# EAGLE library part MT25QL512ABB8ESF-0AAT (library MT25QL512ABB8ESF-0AAT)
NOR Flash Serial-SPI 3V/3.3V 512M-bit 64M/32M/16M x 1/2-bit/4-bit 6ns Automotive 16-Pin SOP-II Source: Datasheet <https://media-www.micron.com/-/media/client/global/documents/products/data-sheet/nor-flash/serial-nor/mt25q/die-rev-b/mt25q_qlkt_l_512_abb_0.pdf?rev=0ef0faa5f7b645d7bc11c30bfd27505b>
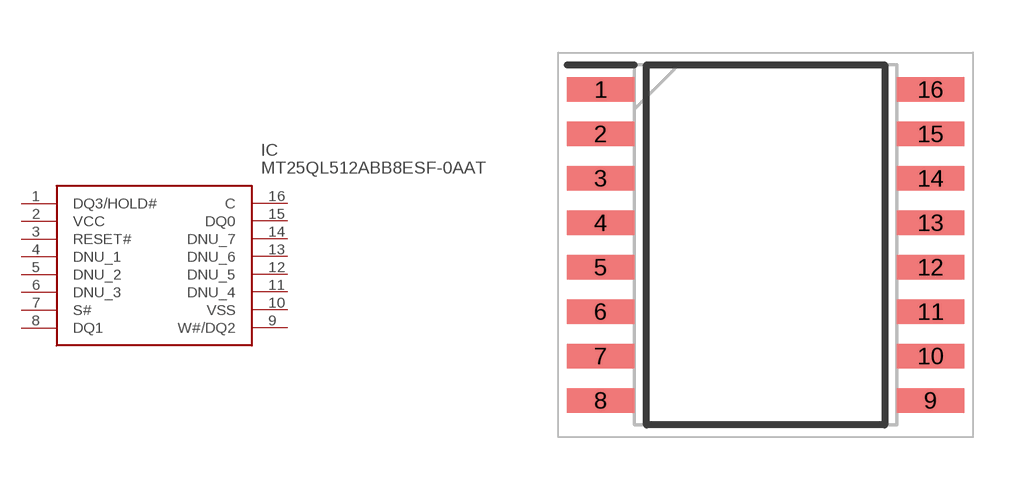
[diagram p0: symbol with the pads of SOIC127P1032X265-16N; footprint SOIC127P1032X265-16N]

Designator prefix IC

## MT25QL512ABB8ESF-0AAT (Description: NOR Flash Serial-SPI 3V/3.3V 512M-bit 64M/32M/16M x 1/2-bit/4-bit 6ns Automotive 16-Pin SOP-II; Height: 2.65mm; Manufacturer_Name: Micron; Manufacturer_Part_Number: MT25QL512ABB8ESF-0AAT; Mouser_Part_Number: 340-285789-TRAY; Mouser_Price-Stock: https://www.mouser.co.uk/ProductDetail/Micron/MT25QL512ABB8ESF-0AAT?qs=rrS6PyfT74da2PZ8DoLIJg%3D%3D)  [SOIC127P1032X265-16N]
1  DQ3/HOLD#
2  VCC
3  RESET#
4  DNU_1
5  DNU_2
6  DNU_3
7  S#
8  DQ1
9  W#/DQ2
10  VSS
11  DNU_4
12  DNU_5
13  DNU_6
14  DNU_7
15  DQ0
16  C

## Footprint SOIC127P1032X265-16N (pad centres in mm)
16-Pin SOP2 – 300 Mils
smd 1.925 x 0.7: 1 -4.712,4.445; 2 -4.712,3.175; 3 -4.712,1.905; 4 -4.712,0.635; 5 -4.712,-0.635; 6 -4.712,-1.905; 7 -4.712,-3.175; 8 -4.712,-4.445; 9 4.712,-4.445; 10 4.712,-3.175; 11 4.712,-1.905; 12 4.712,-0.635; 13 4.712,0.635; 14 4.712,1.905; 15 4.712,3.175; 16 4.712,4.445